# EAGLE library part CPCI_AB47- (library con-cpci)
Compact PCI A+B 47 Monoblock Source: www.erni.com
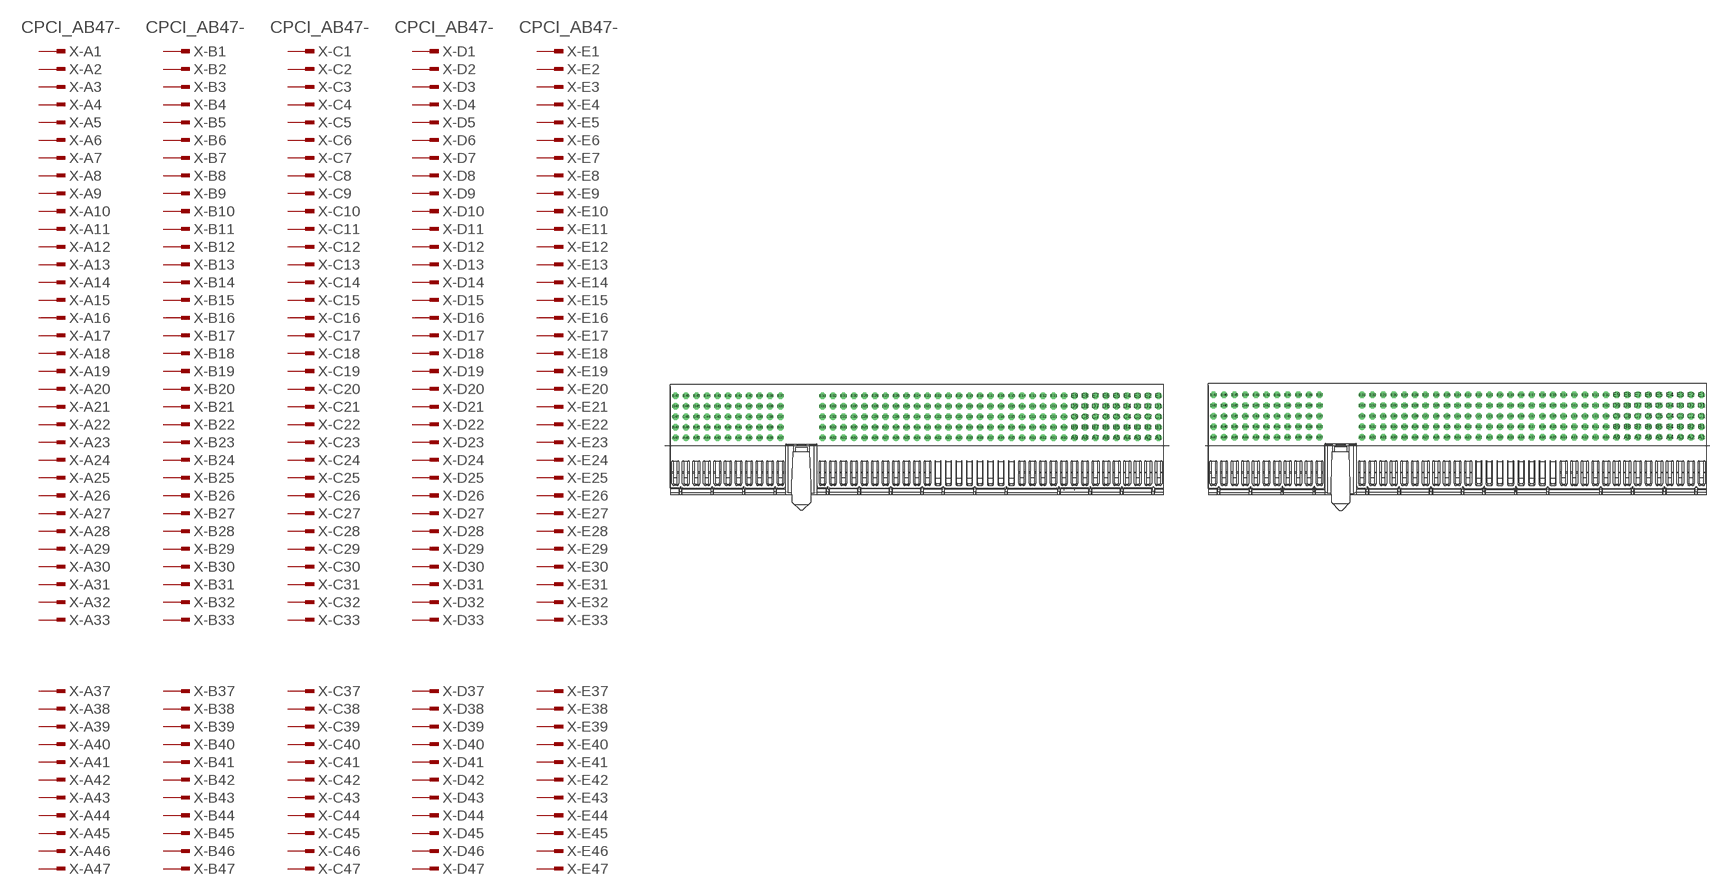
[diagram p5: symbol with the pads of 104732; footprints 104732, 104733]

Designator prefix X; gates -A1=PINV -A2=PIN -A3=PIN -A4=PIN -A5=PIN -A6=PIN -A7=PIN -A8=PIN -A9=PIN -A10=PIN -A11=PIN -A12=PIN -A13=PIN -A14=PIN -A15=PIN -A16=PIN -A17=PIN -A18=PIN -A19=PIN -A20=PIN -A21=PIN -A22=PIN -A23=PIN -A24=PIN -A25=PIN -A26=PIN -A27=PIN -A28=PIN -A29=PIN -A30=PIN -A31=PIN -A32=PIN -A33=PIN -A37=PIN -A38=PIN -A39=PIN -A40=PIN -A41=PIN -A42=PIN -A43=PIN -A44=PIN -A45=PIN -A46=PIN -A47=PIN -B1=PINV -C1=PINV -D1=PINV -E1=PINV -B2=PIN -B3=PIN -B4=PIN -B5=PIN -B6=PIN -B7=PIN -B8=PIN -B9=PIN -B10=PIN -B11=PIN -B12=PIN -B13=PIN -B14=PIN -B15=PIN -B16=PIN -B17=PIN -B18=PIN -B19=PIN -B20=PIN -B21=PIN -B22=PIN -B23=PIN -B24=PIN -B25=PIN -B26=PIN -B27=PIN -B28=PIN -B29=PIN -B30=PIN -B31=PIN -B32=PIN -B33=PIN -B37=PIN -B38=PIN -B39=PIN -B40=PIN -B41=PIN -B42=PIN -B43=PIN -B44=PIN -B45=PIN -B46=PIN -B47=PIN -C2=PIN -C3=PIN -C4=PIN -C5=PIN -C6=PIN -C7=PIN -C8=PIN -C9=PIN -C10=PIN -C11=PIN -C12=PIN -C13=PIN -C14=PIN -C15=PIN -C16=PIN -C17=PIN -C18=PIN -C19=PIN -C20=PIN -C21=PIN -C22=PIN -C23=PIN -C24=PIN -C25=PIN -C26=PIN -C27=PIN -C28=PIN -C29=PIN -C30=PIN -C31=PIN -C32=PIN -C33=PIN -C37=PIN -C38=PIN -C39=PIN -C40=PIN -C41=PIN -C42=PIN -C43=PIN -C44=PIN -C45=PIN -C46=PIN -C47=PIN -D2=PIN -D3=PIN -D4=PIN -D5=PIN -D6=PIN -D7=PIN -D8=PIN -D9=PIN -D10=PIN -D11=PIN -D12=PIN -D13=PIN -D14=PIN -D15=PIN -D16=PIN -D17=PIN -D18=PIN -D19=PIN -D20=PIN -D21=PIN -D22=PIN -D23=PIN -D24=PIN -D25=PIN -D26=PIN -D27=PIN -D28=PIN -D29=PIN -D30=PIN -D31=PIN -D32=PIN -D33=PIN -D37=PIN -D38=PIN -D39=PIN -D40=PIN -D41=PIN -D42=PIN -D43=PIN -D44=PIN -D45=PIN -D46=PIN -D47=PIN -E2=PIN -E3=PIN -E4=PIN -E5=PIN -E6=PIN -E7=PIN -E8=PIN -E9=PIN -E10=PIN -E11=PIN -E12=PIN -E13=PIN -E14=PIN -E15=PIN -E16=PIN -E17=PIN -E18=PIN -E19=PIN -E20=PIN -E21=PIN -E22=PIN -E23=PIN -E24=PIN -E25=PIN -E26=PIN -E27=PIN -E28=PIN -E29=PIN -E30=PIN -E31=PIN -E32=PIN -E33=PIN -E37=PIN -E38=PIN -E39=PIN -E40=PIN -E41=PIN -E42=PIN -E43=PIN -E44=PIN -E45=PIN -E46=PIN -E47=PIN

## CPCI_AB47-104732  [104732]
A1  -A1:1  in
A2  -A2:1  in
A3  -A3:1  in
A4  -A4:1  in
A5  -A5:1  in
A6  -A6:1  in
A7  -A7:1  in
A8  -A8:1  in
A9  -A9:1  in
A10  -A10:1  in
A11  -A11:1  in
A12  -A12:1  in
A13  -A13:1  in
A14  -A14:1  in
A15  -A15:1  in
A16  -A16:1  in
A17  -A17:1  in
A18  -A18:1  in
A19  -A19:1  in
A20  -A20:1  in
A21  -A21:1  in
A22  -A22:1  in
A23  -A23:1  in
A24  -A24:1  in
A25  -A25:1  in
A26  -A26:1  in
A27  -A27:1  in
A28  -A28:1  in
A29  -A29:1  in
A30  -A30:1  in
A31  -A31:1  in
A32  -A32:1  in
A33  -A33:1  in
A37  -A37:1  in
A38  -A38:1  in
A39  -A39:1  in
A40  -A40:1  in
A41  -A41:1  in
A42  -A42:1  in
A43  -A43:1  in
A44  -A44:1  in
A45  -A45:1  in
A46  -A46:1  in
A47  -A47:1  in
B1  -B1:1  in
B2  -B2:1  in
B3  -B3:1  in
B4  -B4:1  in
B5  -B5:1  in
B6  -B6:1  in
B7  -B7:1  in
B8  -B8:1  in
B9  -B9:1  in
B10  -B10:1  in
B11  -B11:1  in
B12  -B12:1  in
B13  -B13:1  in
B14  -B14:1  in
B15  -B15:1  in
B16  -B16:1  in
B17  -B17:1  in
B18  -B18:1  in
B19  -B19:1  in
B20  -B20:1  in
B21  -B21:1  in
B22  -B22:1  in
B23  -B23:1  in
B24  -B24:1  in
B25  -B25:1  in
B26  -B26:1  in
B27  -B27:1  in
B28  -B28:1  in
B29  -B29:1  in
B30  -B30:1  in
B31  -B31:1  in
B32  -B32:1  in
B33  -B33:1  in
B37  -B37:1  in
B38  -B38:1  in
B39  -B39:1  in
B40  -B40:1  in
B41  -B41:1  in
B42  -B42:1  in
B43  -B43:1  in
B44  -B44:1  in
B45  -B45:1  in
B46  -B46:1  in
B47  -B47:1  in
C1  -C1:1  in
C2  -C2:1  in
C3  -C3:1  in
C4  -C4:1  in
C5  -C5:1  in
C6  -C6:1  in
C7  -C7:1  in
C8  -C8:1  in
C9  -C9:1  in
C10  -C10:1  in
C11  -C11:1  in
C12  -C12:1  in
C13  -C13:1  in
C14  -C14:1  in
C15  -C15:1  in
C16  -C16:1  in
C17  -C17:1  in
C18  -C18:1  in
C19  -C19:1  in
C20  -C20:1  in
C21  -C21:1  in
C22  -C22:1  in
C23  -C23:1  in
C24  -C24:1  in
C25  -C25:1  in
C26  -C26:1  in
C27  -C27:1  in
C28  -C28:1  in
C29  -C29:1  in
C30  -C30:1  in
C31  -C31:1  in
C32  -C32:1  in
C33  -C33:1  in
C37  -C37:1  in
C38  -C38:1  in
C39  -C39:1  in
C40  -C40:1  in
C41  -C41:1  in
C42  -C42:1  in
C43  -C43:1  in
C44  -C44:1  in
C45  -C45:1  in
C46  -C46:1  in
C47  -C47:1  in
D1  -D1:1  in
D2  -D2:1  in
D3  -D3:1  in
D4  -D4:1  in
D5  -D5:1  in
D6  -D6:1  in
D7  -D7:1  in
D8  -D8:1  in
D9  -D9:1  in
D10  -D10:1  in
D11  -D11:1  in
D12  -D12:1  in
D13  -D13:1  in
D14  -D14:1  in
D15  -D15:1  in
D16  -D16:1  in
D17  -D17:1  in
D18  -D18:1  in
D19  -D19:1  in
D20  -D20:1  in
D21  -D21:1  in
D22  -D22:1  in
D23  -D23:1  in
D24  -D24:1  in
D25  -D25:1  in
D26  -D26:1  in
D27  -D27:1  in
D28  -D28:1  in
D29  -D29:1  in
D30  -D30:1  in
D31  -D31:1  in
D32  -D32:1  in
D33  -D33:1  in
D37  -D37:1  in
D38  -D38:1  in
D39  -D39:1  in
D40  -D40:1  in
D41  -D41:1  in
D42  -D42:1  in
D43  -D43:1  in
D44  -D44:1  in
D45  -D45:1  in
D46  -D46:1  in
D47  -D47:1  in
E1  -E1:1  in
E2  -E2:1  in
E3  -E3:1  in
E4  -E4:1  in
E5  -E5:1  in
E6  -E6:1  in
E7  -E7:1  in
E8  -E8:1  in
E9  -E9:1  in
E10  -E10:1  in
E11  -E11:1  in
E12  -E12:1  in
E13  -E13:1  in
E14  -E14:1  in
E15  -E15:1  in
E16  -E16:1  in
E17  -E17:1  in
E18  -E18:1  in
E19  -E19:1  in
E20  -E20:1  in
E21  -E21:1  in
E22  -E22:1  in
E23  -E23:1  in
E24  -E24:1  in
E25  -E25:1  in
E26  -E26:1  in
E27  -E27:1  in
E28  -E28:1  in
E29  -E29:1  in
E30  -E30:1  in
E31  -E31:1  in
E32  -E32:1  in
E33  -E33:1  in
E37  -E37:1  in
E38  -E38:1  in
E39  -E39:1  in
E40  -E40:1  in
E41  -E41:1  in
E42  -E42:1  in
E43  -E43:1  in
E44  -E44:1  in
E45  -E45:1  in
E46  -E46:1  in
E47  -E47:1  in

## CPCI_AB47-104733  [104733]
Pads as for 104732

## CPCI_AB47-104734  [104734]
Pads as for 104732

## CPCI_AB47-6U_AB47  [CPCI_6U_AB47]
Pads as for 104732

## CPCI_AB47-3U_AB47  [CPCI_3U_AB47]
Pads as for 104732

## Footprint 104732 (pad centres in mm)
ERmet Federleiste A+B 47 Monoblock Source: http://www.erni.com/DB/PDF-Drawing/ERmet/104732.pdf
drill 0.7 pad 1.016 octagon: A1 46,1.5; A2 44,1.5; A3 42,1.5; A4 40,1.5; A5 38,1.5; A6 36,1.5; A7 34,1.5; A8 32,1.5; A9 30,1.5; A10 28,1.5; A11 26,1.5; A12 24,1.5; A13 22,1.5; A14 20,1.5; A15 18,1.5; A16 16,1.5; A17 14,1.5; A18 12,1.5; A19 10,1.5; A20 8,1.5; A21 6,1.5; A22 4,1.5; A23 2,1.5; A24 0,1.5; A25 -2,1.5; A26 -4,1.5; A27 -6,1.5; A28 -8,1.5; A29 -10,1.5; A30 -12,1.5; A31 -14,1.5; A32 -16,1.5; A33 -18,1.5; A37 -26,1.5; A38 -28,1.5; A39 -30,1.5; A40 -32,1.5; A41 -34,1.5; A42 -36,1.5; A43 -38,1.5; A44 -40,1.5; A45 -42,1.5; A46 -44,1.5; A47 -46,1.5; B1 46,3.5; B2 44,3.5; B3 42,3.5; B4 40,3.5; B5 38,3.5; B6 36,3.5; B7 34,3.5; B8 32,3.5; B9 30,3.5; B10 28,3.5; B11 26,3.5; B12 24,3.5; B13 22,3.5; B14 20,3.5; B15 18,3.5; B16 16,3.5; B17 14,3.5; B18 12,3.5; B19 10,3.5; B20 8,3.5; B21 6,3.5; B22 4,3.5; B23 2,3.5; B24 0,3.5; B25 -2,3.5; B26 -4,3.5; B27 -6,3.5; B28 -8,3.5; B29 -10,3.5; B30 -12,3.5; B31 -14,3.5; B32 -16,3.5; B33 -18,3.5; B37 -26,3.5; B38 -28,3.5; B39 -30,3.5; B40 -32,3.5; B41 -34,3.5; B42 -36,3.5; B43 -38,3.5; B44 -40,3.5; B45 -42,3.5; B46 -44,3.5; B47 -46,3.5; C1 46,5.5; C2 44,5.5; C3 42,5.5; C4 40,5.5; C5 38,5.5; C6 36,5.5; C7 34,5.5; C8 32,5.5; C9 30,5.5; C10 28,5.5; C11 26,5.5; C12 24,5.5; C13 22,5.5; C14 20,5.5; C15 18,5.5; C16 16,5.5; C17 14,5.5; C18 12,5.5; C19 10,5.5; C20 8,5.5; C21 6,5.5; C22 4,5.5; C23 2,5.5; C24 0,5.5; C25 -2,5.5; C26 -4,5.5; C27 -6,5.5; C28 -8,5.5; C29 -10,5.5; C30 -12,5.5; C31 -14,5.5; C32 -16,5.5; C33 -18,5.5; C37 -26,5.5; C38 -28,5.5; C39 -30,5.5; C40 -32,5.5; C41 -34,5.5; C42 -36,5.5; C43 -38,5.5; C44 -40,5.5; C45 -42,5.5; C46 -44,5.5; C47 -46,5.5; D1 46,7.5; D2 44,7.5; D3 42,7.5; D4 40,7.5; D5 38,7.5; D6 36,7.5; D7 34,7.5; D8 32,7.5; D9 30,7.5; D10 28,7.5; D11 26,7.5; D12 24,7.5; D13 22,7.5; D14 20,7.5; D15 18,7.5; D16 16,7.5; D17 14,7.5; D18 12,7.5; D19 10,7.5; D20 8,7.5; D21 6,7.5; D22 4,7.5; D23 2,7.5; D24 0,7.5; D25 -2,7.5; D26 -4,7.5; D27 -6,7.5; D28 -8,7.5; D29 -10,7.5; D30 -12,7.5; D31 -14,7.5; D32 -16,7.5; D33 -18,7.5; D37 -26,7.5; D38 -28,7.5; D39 -30,7.5; D40 -32,7.5; D41 -34,7.5; D42 -36,7.5; D43 -38,7.5; D44 -40,7.5; D45 -42,7.5; D46 -44,7.5; D47 -46,7.5; E1 46,9.5; E2 44,9.5; E3 42,9.5; E4 40,9.5; E5 38,9.5; E6 36,9.5; E7 34,9.5; E8 32,9.5; E9 30,9.5; E10 28,9.5; E11 26,9.5; E12 24,9.5; E13 22,9.5; E14 20,9.5; E15 18,9.5; E16 16,9.5; E17 14,9.5; E18 12,9.5; E19 10,9.5; E20 8,9.5; E21 6,9.5; E22 4,9.5; E23 2,9.5; E24 0,9.5; E25 -2,9.5; E26 -4,9.5; E27 -6,9.5; E28 -8,9.5; E29 -10,9.5; E30 -12,9.5; E31 -14,9.5; E32 -16,9.5; E33 -18,9.5; E37 -26,9.5; E38 -28,9.5; E39 -30,9.5; E40 -32,9.5; E41 -34,9.5; E42 -36,9.5; E43 -38,9.5; E44 -40,9.5; E45 -42,9.5; E46 -44,9.5; E47 -46,9.5

## Footprint 104733 (pad centres in mm)
ERmet Federleiste A+B 47 Monoblock 3.3V/gelb Source: http://www.erni.com/DB/PDF-Drawing/ERmet/104733.pdf
drill 0.7 pad 1.016 octagon: A1 46,1.5; A2 44,1.5; A3 42,1.5; A4 40,1.5; A5 38,1.5; A6 36,1.5; A7 34,1.5; A8 32,1.5; A9 30,1.5; A10 28,1.5; A11 26,1.5; A12 24,1.5; A13 22,1.5; A14 20,1.5; A15 18,1.5; A16 16,1.5; A17 14,1.5; A18 12,1.5; A19 10,1.5; A20 8,1.5; A21 6,1.5; A22 4,1.5; A23 2,1.5; A24 0,1.5; A25 -2,1.5; A26 -4,1.5; A27 -6,1.5; A28 -8,1.5; A29 -10,1.5; A30 -12,1.5; A31 -14,1.5; A32 -16,1.5; A33 -18,1.5; A37 -26,1.5; A38 -28,1.5; A39 -30,1.5; A40 -32,1.5; A41 -34,1.5; A42 -36,1.5; A43 -38,1.5; A44 -40,1.5; A45 -42,1.5; A46 -44,1.5; A47 -46,1.5; B1 46,3.5; B2 44,3.5; B3 42,3.5; B4 40,3.5; B5 38,3.5; B6 36,3.5; B7 34,3.5; B8 32,3.5; B9 30,3.5; B10 28,3.5; B11 26,3.5; B12 24,3.5; B13 22,3.5; B14 20,3.5; B15 18,3.5; B16 16,3.5; B17 14,3.5; B18 12,3.5; B19 10,3.5; B20 8,3.5; B21 6,3.5; B22 4,3.5; B23 2,3.5; B24 0,3.5; B25 -2,3.5; B26 -4,3.5; B27 -6,3.5; B28 -8,3.5; B29 -10,3.5; B30 -12,3.5; B31 -14,3.5; B32 -16,3.5; B33 -18,3.5; B37 -26,3.5; B38 -28,3.5; B39 -30,3.5; B40 -32,3.5; B41 -34,3.5; B42 -36,3.5; B43 -38,3.5; B44 -40,3.5; B45 -42,3.5; B46 -44,3.5; B47 -46,3.5; C1 46,5.5; C2 44,5.5; C3 42,5.5; C4 40,5.5; C5 38,5.5; C6 36,5.5; C7 34,5.5; C8 32,5.5; C9 30,5.5; C10 28,5.5; C11 26,5.5; C12 24,5.5; C13 22,5.5; C14 20,5.5; C15 18,5.5; C16 16,5.5; C17 14,5.5; C18 12,5.5; C19 10,5.5; C20 8,5.5; C21 6,5.5; C22 4,5.5; C23 2,5.5; C24 0,5.5; C25 -2,5.5; C26 -4,5.5; C27 -6,5.5; C28 -8,5.5; C29 -10,5.5; C30 -12,5.5; C31 -14,5.5; C32 -16,5.5; C33 -18,5.5; C37 -26,5.5; C38 -28,5.5; C39 -30,5.5; C40 -32,5.5; C41 -34,5.5; C42 -36,5.5; C43 -38,5.5; C44 -40,5.5; C45 -42,5.5; C46 -44,5.5; C47 -46,5.5; D1 46,7.5; D2 44,7.5; D3 42,7.5; D4 40,7.5; D5 38,7.5; D6 36,7.5; D7 34,7.5; D8 32,7.5; D9 30,7.5; D10 28,7.5; D11 26,7.5; D12 24,7.5; D13 22,7.5; D14 20,7.5; D15 18,7.5; D16 16,7.5; D17 14,7.5; D18 12,7.5; D19 10,7.5; D20 8,7.5; D21 6,7.5; D22 4,7.5; D23 2,7.5; D24 0,7.5; D25 -2,7.5; D26 -4,7.5; D27 -6,7.5; D28 -8,7.5; D29 -10,7.5; D30 -12,7.5; D31 -14,7.5; D32 -16,7.5; D33 -18,7.5; D37 -26,7.5; D38 -28,7.5; D39 -30,7.5; D40 -32,7.5; D41 -34,7.5; D42 -36,7.5; D43 -38,7.5; D44 -40,7.5; D45 -42,7.5; D46 -44,7.5; D47 -46,7.5; E1 46,9.5; E2 44,9.5; E3 42,9.5; E4 40,9.5; E5 38,9.5; E6 36,9.5; E7 34,9.5; E8 32,9.5; E9 30,9.5; E10 28,9.5; E11 26,9.5; E12 24,9.5; E13 22,9.5; E14 20,9.5; E15 18,9.5; E16 16,9.5; E17 14,9.5; E18 12,9.5; E19 10,9.5; E20 8,9.5; E21 6,9.5; E22 4,9.5; E23 2,9.5; E24 0,9.5; E25 -2,9.5; E26 -4,9.5; E27 -6,9.5; E28 -8,9.5; E29 -10,9.5; E30 -12,9.5; E31 -14,9.5; E32 -16,9.5; E33 -18,9.5; E37 -26,9.5; E38 -28,9.5; E39 -30,9.5; E40 -32,9.5; E41 -34,9.5; E42 -36,9.5; E43 -38,9.5; E44 -40,9.5; E45 -42,9.5; E46 -44,9.5; E47 -46,9.5

## Footprint 104734 (pad centres in mm)
ERmet Federleiste A+B 47 Monoblock 5V/blau Source: http://www.erni.com/DB/PDF-Drawing/ERmet/104734.pdf
drill 0.7 pad 1.016 octagon: A1 46,1.5; A2 44,1.5; A3 42,1.5; A4 40,1.5; A5 38,1.5; A6 36,1.5; A7 34,1.5; A8 32,1.5; A9 30,1.5; A10 28,1.5; A11 26,1.5; A12 24,1.5; A13 22,1.5; A14 20,1.5; A15 18,1.5; A16 16,1.5; A17 14,1.5; A18 12,1.5; A19 10,1.5; A20 8,1.5; A21 6,1.5; A22 4,1.5; A23 2,1.5; A24 0,1.5; A25 -2,1.5; A26 -4,1.5; A27 -6,1.5; A28 -8,1.5; A29 -10,1.5; A30 -12,1.5; A31 -14,1.5; A32 -16,1.5; A33 -18,1.5; A37 -26,1.5; A38 -28,1.5; A39 -30,1.5; A40 -32,1.5; A41 -34,1.5; A42 -36,1.5; A43 -38,1.5; A44 -40,1.5; A45 -42,1.5; A46 -44,1.5; A47 -46,1.5; B1 46,3.5; B2 44,3.5; B3 42,3.5; B4 40,3.5; B5 38,3.5; B6 36,3.5; B7 34,3.5; B8 32,3.5; B9 30,3.5; B10 28,3.5; B11 26,3.5; B12 24,3.5; B13 22,3.5; B14 20,3.5; B15 18,3.5; B16 16,3.5; B17 14,3.5; B18 12,3.5; B19 10,3.5; B20 8,3.5; B21 6,3.5; B22 4,3.5; B23 2,3.5; B24 0,3.5; B25 -2,3.5; B26 -4,3.5; B27 -6,3.5; B28 -8,3.5; B29 -10,3.5; B30 -12,3.5; B31 -14,3.5; B32 -16,3.5; B33 -18,3.5; B37 -26,3.5; B38 -28,3.5; B39 -30,3.5; B40 -32,3.5; B41 -34,3.5; B42 -36,3.5; B43 -38,3.5; B44 -40,3.5; B45 -42,3.5; B46 -44,3.5; B47 -46,3.5; C1 46,5.5; C2 44,5.5; C3 42,5.5; C4 40,5.5; C5 38,5.5; C6 36,5.5; C7 34,5.5; C8 32,5.5; C9 30,5.5; C10 28,5.5; C11 26,5.5; C12 24,5.5; C13 22,5.5; C14 20,5.5; C15 18,5.5; C16 16,5.5; C17 14,5.5; C18 12,5.5; C19 10,5.5; C20 8,5.5; C21 6,5.5; C22 4,5.5; C23 2,5.5; C24 0,5.5; C25 -2,5.5; C26 -4,5.5; C27 -6,5.5; C28 -8,5.5; C29 -10,5.5; C30 -12,5.5; C31 -14,5.5; C32 -16,5.5; C33 -18,5.5; C37 -26,5.5; C38 -28,5.5; C39 -30,5.5; C40 -32,5.5; C41 -34,5.5; C42 -36,5.5; C43 -38,5.5; C44 -40,5.5; C45 -42,5.5; C46 -44,5.5; C47 -46,5.5; D1 46,7.5; D2 44,7.5; D3 42,7.5; D4 40,7.5; D5 38,7.5; D6 36,7.5; D7 34,7.5; D8 32,7.5; D9 30,7.5; D10 28,7.5; D11 26,7.5; D12 24,7.5; D13 22,7.5; D14 20,7.5; D15 18,7.5; D16 16,7.5; D17 14,7.5; D18 12,7.5; D19 10,7.5; D20 8,7.5; D21 6,7.5; D22 4,7.5; D23 2,7.5; D24 0,7.5; D25 -2,7.5; D26 -4,7.5; D27 -6,7.5; D28 -8,7.5; D29 -10,7.5; D30 -12,7.5; D31 -14,7.5; D32 -16,7.5; D33 -18,7.5; D37 -26,7.5; D38 -28,7.5; D39 -30,7.5; D40 -32,7.5; D41 -34,7.5; D42 -36,7.5; D43 -38,7.5; D44 -40,7.5; D45 -42,7.5; D46 -44,7.5; D47 -46,7.5; E1 46,9.5; E2 44,9.5; E3 42,9.5; E4 40,9.5; E5 38,9.5; E6 36,9.5; E7 34,9.5; E8 32,9.5; E9 30,9.5; E10 28,9.5; E11 26,9.5; E12 24,9.5; E13 22,9.5; E14 20,9.5; E15 18,9.5; E16 16,9.5; E17 14,9.5; E18 12,9.5; E19 10,9.5; E20 8,9.5; E21 6,9.5; E22 4,9.5; E23 2,9.5; E24 0,9.5; E25 -2,9.5; E26 -4,9.5; E27 -6,9.5; E28 -8,9.5; E29 -10,9.5; E30 -12,9.5; E31 -14,9.5; E32 -16,9.5; E33 -18,9.5; E37 -26,9.5; E38 -28,9.5; E39 -30,9.5; E40 -32,9.5; E41 -34,9.5; E42 -36,9.5; E43 -38,9.5; E44 -40,9.5; E45 -42,9.5; E46 -44,9.5; E47 -46,9.5

## Footprint CPCI_6U_AB47 (pad centres in mm)
Compact PCI Shortform Specification November 1, 1995 Source: http://www.picmg.org/test/pdf/cpcispec.pdf
drill 0.7 pad 1.016 octagon: A1 158.5,96; A2 158.5,94; A3 158.5,92; A4 158.5,90; A5 158.5,88; A6 158.5,86; A7 158.5,84; A8 158.5,82; A9 158.5,80; A10 158.5,78; A11 158.5,76; A12 158.5,74; A13 158.5,72; A14 158.5,70; A15 158.5,68; A16 158.5,66; A17 158.5,64; A18 158.5,62; A19 158.5,60; A20 158.5,58; A21 158.5,56; A22 158.5,54; A23 158.5,52; A24 158.5,50; A25 158.5,48; A26 158.5,46; A27 158.5,44; A28 158.5,42; A29 158.5,40; A30 158.5,38; A31 158.5,36; A32 158.5,34; A33 158.5,32; A37 158.5,24; A38 158.5,22; A39 158.5,20; A40 158.5,18; A41 158.5,16; A42 158.5,14; A43 158.5,12; A44 158.5,10; A45 158.5,8; A46 158.5,6; A47 158.5,4; B1 156.5,96; B2 156.5,94; B3 156.5,92; B4 156.5,90; B5 156.5,88; B6 156.5,86; B7 156.5,84; B8 156.5,82; B9 156.5,80; B10 156.5,78; B11 156.5,76; B12 156.5,74; B13 156.5,72; B14 156.5,70; B15 156.5,68; B16 156.5,66; B17 156.5,64; B18 156.5,62; B19 156.5,60; B20 156.5,58; B21 156.5,56; B22 156.5,54; B23 156.5,52; B24 156.5,50; B25 156.5,48; B26 156.5,46; B27 156.5,44; B28 156.5,42; B29 156.5,40; B30 156.5,38; B31 156.5,36; B32 156.5,34; B33 156.5,32; B37 156.5,24; B38 156.5,22; B39 156.5,20; B40 156.5,18; B41 156.5,16; B42 156.5,14; B43 156.5,12; B44 156.5,10; B45 156.5,8; B46 156.5,6; B47 156.5,4; C1 154.5,96; C2 154.5,94; C3 154.5,92; C4 154.5,90; C5 154.5,88; C6 154.5,86; C7 154.5,84; C8 154.5,82; C9 154.5,80; C10 154.5,78; C11 154.5,76; C12 154.5,74; C13 154.5,72; C14 154.5,70; C15 154.5,68; C16 154.5,66; C17 154.5,64; C18 154.5,62; C19 154.5,60; C20 154.5,58; C21 154.5,56; C22 154.5,54; C23 154.5,52; C24 154.5,50; C25 154.5,48; C26 154.5,46; C27 154.5,44; C28 154.5,42; C29 154.5,40; C30 154.5,38; C31 154.5,36; C32 154.5,34; C33 154.5,32; C37 154.5,24; C38 154.5,22; C39 154.5,20; C40 154.5,18; C41 154.5,16; C42 154.5,14; C43 154.5,12; C44 154.5,10; C45 154.5,8; C46 154.5,6; C47 154.5,4; D1 152.5,96; D2 152.5,94; D3 152.5,92; D4 152.5,90; D5 152.5,88; D6 152.5,86; D7 152.5,84; D8 152.5,82; D9 152.5,80; D10 152.5,78; D11 152.5,76; D12 152.5,74; D13 152.5,72; D14 152.5,70; D15 152.5,68; D16 152.5,66; D17 152.5,64; D18 152.5,62; D19 152.5,60; D20 152.5,58; D21 152.5,56; D22 152.5,54; D23 152.5,52; D24 152.5,50; D25 152.5,48; D26 152.5,46; D27 152.5,44; D28 152.5,42; D29 152.5,40; D30 152.5,38; D31 152.5,36; D32 152.5,34; D33 152.5,32; D37 152.5,24; D38 152.5,22; D39 152.5,20; D40 152.5,18; D41 152.5,16; D42 152.5,14; D43 152.5,12; D44 152.5,10; D45 152.5,8; D46 152.5,6; D47 152.5,4; E1 150.5,96; E2 150.5,94; E3 150.5,92; E4 150.5,90; E5 150.5,88; E6 150.5,86; E7 150.5,84; E8 150.5,82; E9 150.5,80; E10 150.5,78; E11 150.5,76; E12 150.5,74; E13 150.5,72; E14 150.5,70; E15 150.5,68; E16 150.5,66; E17 150.5,64; E18 150.5,62; E19 150.5,60; E20 150.5,58; E21 150.5,56; E22 150.5,54; E23 150.5,52; E24 150.5,50; E25 150.5,48; E26 150.5,46; E27 150.5,44; E28 150.5,42; E29 150.5,40; E30 150.5,38; E31 150.5,36; E32 150.5,34; E33 150.5,32; E37 150.5,24; E38 150.5,22; E39 150.5,20; E40 150.5,18; E41 150.5,16; E42 150.5,14; E43 150.5,12; E44 150.5,10; E45 150.5,8; E46 150.5,6; E47 150.5,4

## Footprint CPCI_3U_AB47 (pad centres in mm)
Compact PCI Shortform Specification November 1, 1995 Source: http://www.picmg.org/test/pdf/cpcispec.pdf
drill 0.7 pad 1.016 octagon: A1 158.5,96; A2 158.5,94; A3 158.5,92; A4 158.5,90; A5 158.5,88; A6 158.5,86; A7 158.5,84; A8 158.5,82; A9 158.5,80; A10 158.5,78; A11 158.5,76; A12 158.5,74; A13 158.5,72; A14 158.5,70; A15 158.5,68; A16 158.5,66; A17 158.5,64; A18 158.5,62; A19 158.5,60; A20 158.5,58; A21 158.5,56; A22 158.5,54; A23 158.5,52; A24 158.5,50; A25 158.5,48; A26 158.5,46; A27 158.5,44; A28 158.5,42; A29 158.5,40; A30 158.5,38; A31 158.5,36; A32 158.5,34; A33 158.5,32; A37 158.5,24; A38 158.5,22; A39 158.5,20; A40 158.5,18; A41 158.5,16; A42 158.5,14; A43 158.5,12; A44 158.5,10; A45 158.5,8; A46 158.5,6; A47 158.5,4; B1 156.5,96; B2 156.5,94; B3 156.5,92; B4 156.5,90; B5 156.5,88; B6 156.5,86; B7 156.5,84; B8 156.5,82; B9 156.5,80; B10 156.5,78; B11 156.5,76; B12 156.5,74; B13 156.5,72; B14 156.5,70; B15 156.5,68; B16 156.5,66; B17 156.5,64; B18 156.5,62; B19 156.5,60; B20 156.5,58; B21 156.5,56; B22 156.5,54; B23 156.5,52; B24 156.5,50; B25 156.5,48; B26 156.5,46; B27 156.5,44; B28 156.5,42; B29 156.5,40; B30 156.5,38; B31 156.5,36; B32 156.5,34; B33 156.5,32; B37 156.5,24; B38 156.5,22; B39 156.5,20; B40 156.5,18; B41 156.5,16; B42 156.5,14; B43 156.5,12; B44 156.5,10; B45 156.5,8; B46 156.5,6; B47 156.5,4; C1 154.5,96; C2 154.5,94; C3 154.5,92; C4 154.5,90; C5 154.5,88; C6 154.5,86; C7 154.5,84; C8 154.5,82; C9 154.5,80; C10 154.5,78; C11 154.5,76; C12 154.5,74; C13 154.5,72; C14 154.5,70; C15 154.5,68; C16 154.5,66; C17 154.5,64; C18 154.5,62; C19 154.5,60; C20 154.5,58; C21 154.5,56; C22 154.5,54; C23 154.5,52; C24 154.5,50; C25 154.5,48; C26 154.5,46; C27 154.5,44; C28 154.5,42; C29 154.5,40; C30 154.5,38; C31 154.5,36; C32 154.5,34; C33 154.5,32; C37 154.5,24; C38 154.5,22; C39 154.5,20; C40 154.5,18; C41 154.5,16; C42 154.5,14; C43 154.5,12; C44 154.5,10; C45 154.5,8; C46 154.5,6; C47 154.5,4; D1 152.5,96; D2 152.5,94; D3 152.5,92; D4 152.5,90; D5 152.5,88; D6 152.5,86; D7 152.5,84; D8 152.5,82; D9 152.5,80; D10 152.5,78; D11 152.5,76; D12 152.5,74; D13 152.5,72; D14 152.5,70; D15 152.5,68; D16 152.5,66; D17 152.5,64; D18 152.5,62; D19 152.5,60; D20 152.5,58; D21 152.5,56; D22 152.5,54; D23 152.5,52; D24 152.5,50; D25 152.5,48; D26 152.5,46; D27 152.5,44; D28 152.5,42; D29 152.5,40; D30 152.5,38; D31 152.5,36; D32 152.5,34; D33 152.5,32; D37 152.5,24; D38 152.5,22; D39 152.5,20; D40 152.5,18; D41 152.5,16; D42 152.5,14; D43 152.5,12; D44 152.5,10; D45 152.5,8; D46 152.5,6; D47 152.5,4; E1 150.5,96; E2 150.5,94; E3 150.5,92; E4 150.5,90; E5 150.5,88; E6 150.5,86; E7 150.5,84; E8 150.5,82; E9 150.5,80; E10 150.5,78; E11 150.5,76; E12 150.5,74; E13 150.5,72; E14 150.5,70; E15 150.5,68; E16 150.5,66; E17 150.5,64; E18 150.5,62; E19 150.5,60; E20 150.5,58; E21 150.5,56; E22 150.5,54; E23 150.5,52; E24 150.5,50; E25 150.5,48; E26 150.5,46; E27 150.5,44; E28 150.5,42; E29 150.5,40; E30 150.5,38; E31 150.5,36; E32 150.5,34; E33 150.5,32; E37 150.5,24; E38 150.5,22; E39 150.5,20; E40 150.5,18; E41 150.5,16; E42 150.5,14; E43 150.5,12; E44 150.5,10; E45 150.5,8; E46 150.5,6; E47 150.5,4